# EAGLE library part TQFP44-ISP (library SmallRoomLabs)
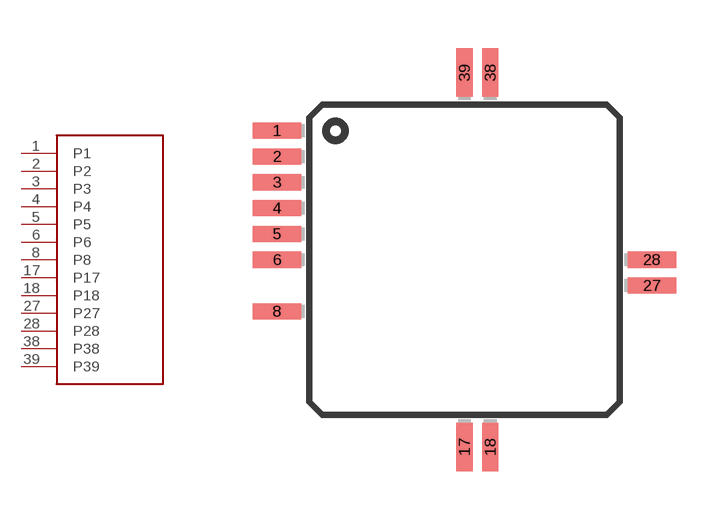
[diagram p11: symbol with the pads of TQFP44-ISP; footprint TQFP44-ISP]

Designator prefix -

## TQFP44-ISP  [TQFP44-ISP]
1  P1
2  P2
3  P3
4  P4
5  P5
6  P6
8  P8
17  P17
18  P18
27  P27
28  P28
38  P38
39  P39

## Footprint TQFP44-ISP (pad centres in mm)
smd 1.5 x 0.5: 1 -5.8,4; 2 -5.8,3.2; 3 -5.8,2.4; 4 -5.8,1.6; 5 -5.8,0.8; 6 -5.8,0; 8 -5.8,-1.6; 27 5.8,-0.8; 28 5.8,0
smd 0.5 x 1.5: 17 0,-5.8; 18 0.8,-5.8; 38 0.8,5.8; 39 0,5.8